# EAGLE library part ANALOG,MUX:ADG609/709(DUAL4-CH) (library QuantumOptics)
Dual 4-channel analog mux, ADG609/709, http://www.analog.com/static/imported-files/data_sheets/ADG608_609.pdf
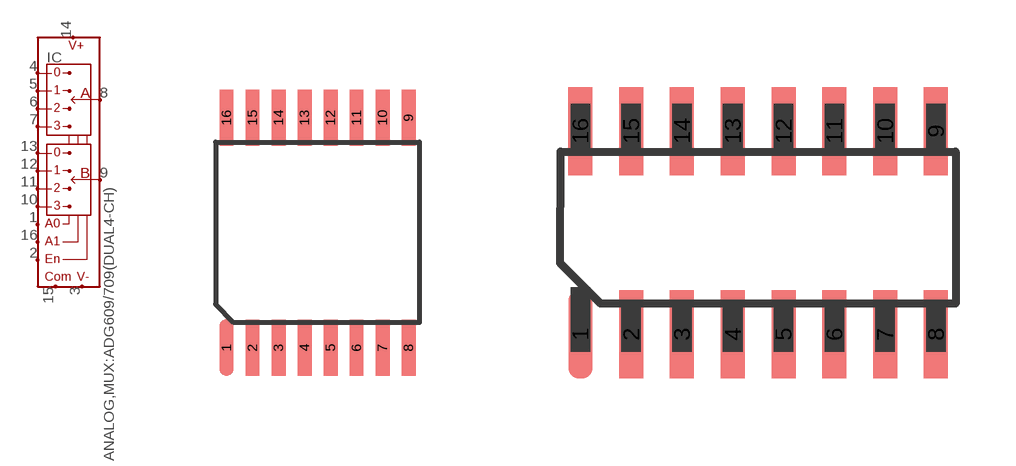
[diagram p131: symbol with the pads of TSSOP-16; footprints TSSOP-16, SOIC-16]

Designator prefix IC

## ANALOG,MUX:ADG609/709(DUAL4-CH)-TSSOP16(_RU)  [TSSOP-16]
1  A0  in
2  EN  in
3  VSS
4  S1A
5  S2A
6  S3A
7  S4A
8  DA
9  DB
10  S4B
11  S3B
12  S2B
13  S1B
14  VDD
15  COM
16  A1  in

## ANALOG,MUX:ADG609/709(DUAL4-CH)-SOIC16(_R)  [SOIC-16]
Pads as for TSSOP-16

## Footprint TSSOP-16 (pad centres in mm)
TSSOP-16, based on Maxim with 4.4mm body.
smd 0.35 x 1.4: 1 -2.275,-2.875; 2 -1.625,-2.875; 3 -0.975,-2.875; 4 -0.325,-2.875; 5 0.325,-2.875; 6 0.975,-2.875; 7 1.625,-2.875; 8 2.275,-2.875; 9 2.275,2.875; 10 1.625,2.875; 11 0.975,2.875; 12 0.325,2.875; 13 -0.325,2.875; 14 -0.975,2.875; 15 -1.625,2.875; 16 -2.275,2.875

## Footprint SOIC-16 (pad centres in mm)
SOIC-16, 0.05" pad spacing with 0.15" wide case.
smd 0.6 x 2.2: 1 -3.81,-2.54; 2 -2.54,-2.54; 3 -1.27,-2.54; 4 0,-2.54; 5 1.27,-2.54; 6 2.54,-2.54; 7 3.81,-2.54; 8 5.08,-2.54; 9 5.08,2.54; 10 3.81,2.54; 11 2.54,2.54; 12 1.27,2.54; 13 0,2.54; 14 -1.27,2.54; 15 -2.54,2.54; 16 -3.81,2.54